# Altium footprint library TL53EF160Q.PcbLib: 1 footprints
Each footprint in its own frame and in the unit in brackets; x right, y up, seen from the top. Pads: shape width x height; smd on the part's side, far side on the other; paste and mask are expansions set on the pad; w line width, h text height; cw(c..) or ccw(c..) is an arc to the next point about the centre after c.
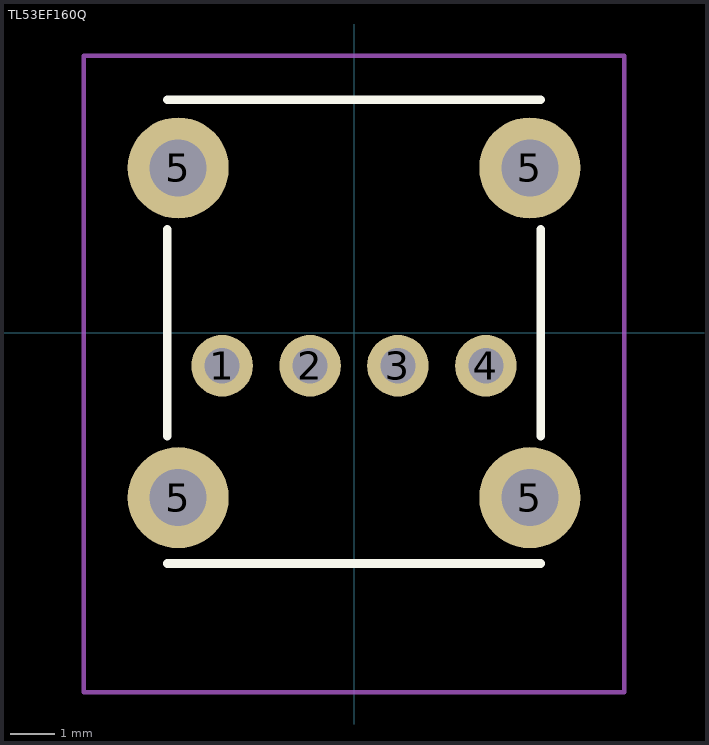
[diagram p0: the footprint, top view; thin cyan lines are the x and y axes]

## TL53EF160Q [mm]
pads (8):
  round 1.4 hole 0.8: 1(-3,-0.75) 2(-1,-0.75) 3(1,-0.75) 4(3,-0.75)
  round 2.3 hole 1.3: 5(-4,-3.75) 5(-4,3.75) 5(4,-3.75) 5(4,3.75)
Top Overlay:
  lines w0.2: -4.25,-5.25 4.25,-5.25 ; -4.25,-2.35 -4.25,2.35 ; -4.25,5.3 4.25,5.3 ; 4.25,-2.35 4.25,2.35
Top Courtyard:
  lines w0.1: -6.15,-8.175 -4,-8.175 6.15,-8.175 6.15,6.3 -6.15,6.3 -6.15,-8.175
3D body "71057-K10-TL53EF160Q.STEP": height 23, standoff -3.2, extent -4,-7.175 4,5.325